# Altium schematic symbol library AVR_ATMEGA162.SchLib: 1 symbol
Pins are listed as number, name and electrical type; pins without a type are passive.

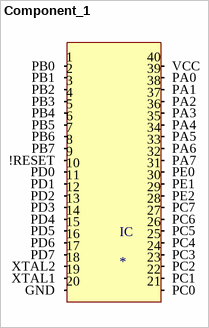
[diagram p0: symbol Component_1]

## Component_1
designator IC
AVR ATMEGA162
footprint PCBComponent_1
pins: 1 PB0, 2 PB1, 3 PB2, 4 PB3, 5 PB4, 6 PB5, 7 PB6, 8 PB7, 9 !RESET, 10 PD0, 11 PD1, 12 PD2, 13 PD3, 14 PD4, 15 PD5, 16 PD6, 17 PD7, 18 XTAL2, 19 XTAL1, 20 GND, 21 PC0, 22 PC1, 23 PC2, 24 PC3, 25 PC4, 26 PC5, 27 PC6, 28 PC7, 29 PE2, 30 PE1, 31 PE0, 32 PA7, 33 PA6, 34 PA5, 35 PA4, 36 PA3, 37 PA2, 38 PA1, 39 PA0, 40 VCC